# Altium footprint library FUSE_RST_1812_TYCO.PcbLib: 1 footprints
Each footprint in its own frame and in the unit in brackets; x right, y up, seen from the top. Pads: shape width x height; smd on the part's side, far side on the other; paste and mask are expansions set on the pad; w line width, h text height; cw(c..) or ccw(c..) is an arc to the next point about the centre after c.
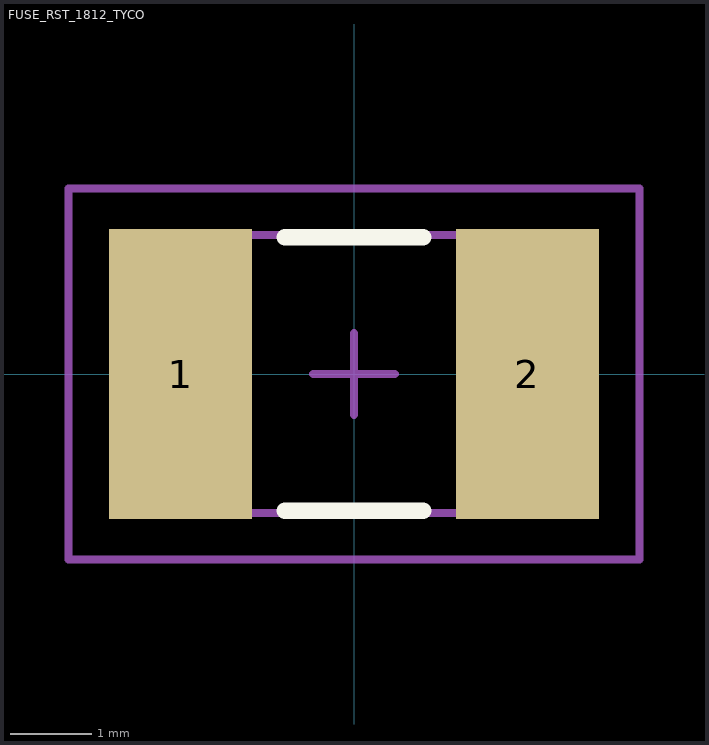
[diagram p0: the footprint, top view; thin cyan lines are the x and y axes]

## FUSE_RST_1812_TYCO [mm]
height 0.62
pads (2):
  rect 1.75x3.55 smd: 1(-2.125,0) 2(2.125,0)
Top Overlay:
  lines w0.2: -0.85,-1.675 0.85,-1.675 ; -0.85,1.675 0.85,1.675
Mechanical 13:
  lines w0.1: -2.365,-1.705 2.365,-1.705 2.365,1.705 -2.365,1.705 -2.365,-1.705
Mechanical 15:
  lines w0.1: -0.5,0 0.5,0 ; 0,-0.5 0,0.5 ; -3.5,-2.275 3.5,-2.275 3.5,2.275 -3.5,2.275 -3.5,-2.275
3D body: height 0.51, standoff -0.01, extent -2.25,-1.6 2.25,1.6